# Altium schematic symbol library KickerSchlib.SchLib: 13 symbols
Pins are listed as number, name and electrical type; pins without a type are passive.

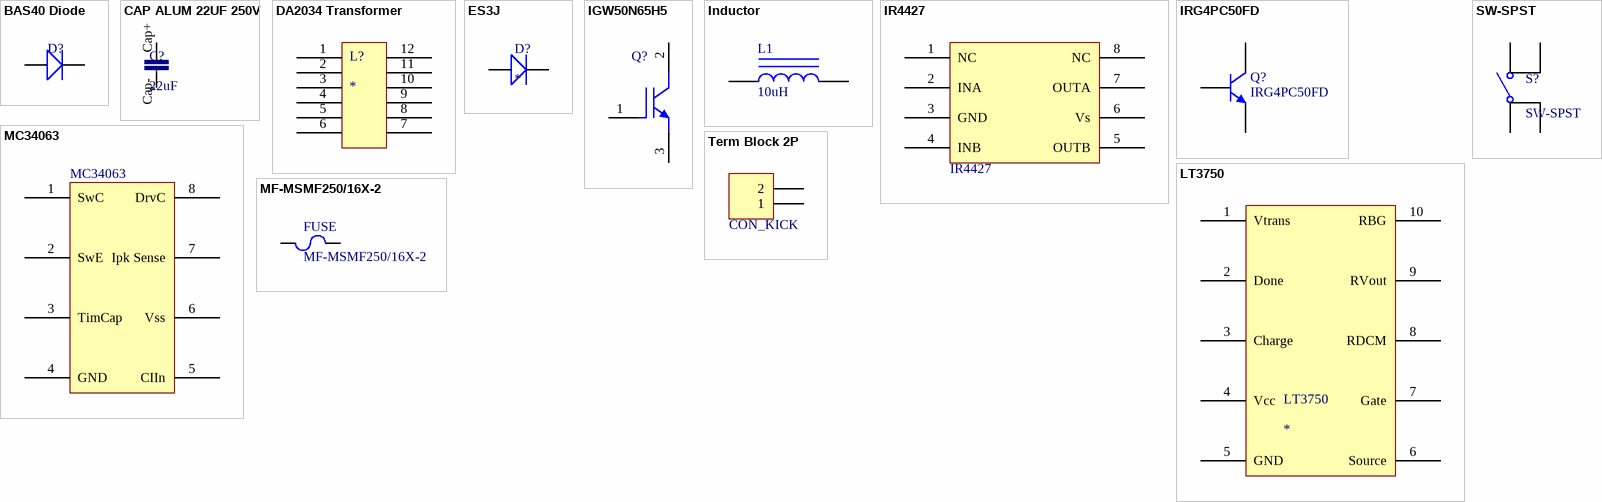
[diagram p0: symbols BAS40 Diode to Term Block 2P]

## BAS40 Diode
designator D?  (value not drawn)
footprint DIODE SOD-523
pins: 1 D+, 2 D-

## CAP ALUM 22UF 250V
designator C?, comment 22uF
footprint CAP ALUM 22UF 250V (22uF)
pins: Cap+, Cap-

## DA2034 Transformer
designator L?
footprint DA2034 Transformer
pins: 1, 2, 3, 4, 5, 6, 7, 8, 9, 10, 11, 12
1 alternate drawing of the same symbol

## ES3J
designator D?
footprint Diode
pins: D1+, D1-

## IGW50N65H5
designator Q?
650 V IGBT High Speed Switching Series Fifth Generation, 80 A IC, PG-TO247-3-44, Tube, Green; Manufacturer: Infineon; PartNumber: IGW50N65H5; Green: TRUE; Group: IGBT without Anti-Parallel Diode; IC(max)@ 100degrees: 56 A; IC(max)@ 25degrees: 80 A; ICpuls(max): 150 A; Ptot(max): 305 W; Switching Frequency: TRENCHSTOP5 10-120 kHz; VCE(max): 650 V; VCE(sat)(typ): 1.65 V; DatasheetVersion: Rev. 1.1; PackageVersion: Rev. 03; PackageReference: PG-TO247-3-44; PackageDescription: 3-Pin Plastic (Green) Transistor Single Outline Package, 15.94 x 20.95 mm Body, 5.44 mm Pitch; Supplier 1: Mouser; Supplier Part Number 1: N/A; Halogen-free: available; Packing: Tube; Mounting Technology: Through Hole; ComponentLink1Description: Manufacturer URL; ComponentLink1URL: http://www.infineon.com/; ComponentLink2Description: Datasheet; ComponentLink2URL: http://www.infineon.com/dgdl/DS_IGW50N65H5_1_1.pdf?folderId=db3a3043156fd5730115f56849b61941&fileId=db3a30433af5291e013af900f52c5c25&location=en.Products.IGBTs.IGBT_with_Anti-Parallel_Diode.TRENCHSTOP_5.DATASHEET.DS_IGW50N65H5_1_1.pdf; ComponentLink3Description: Package Specification; ComponentLink3URL: http://www.infineon.com/cms/packages/Leaded_and_through-hole/P-PG-TO247/P-PG-TO247-3-44.html?__locale=en
footprint INF-PG-TO247-3-44 (FM, 3-Leads, Body 5.02x15.94mm, Pitch 5.44mm)
pins: 1 G, 2 C, 3 E

## Inductor
designator L1, comment 10uH
Fixed Inductors 100uH 0.86A SMT
footprint INDUCTOR
pins: 1, 2

## IR4427
designator IR4427, comment GATE DRIVER  (value not drawn)
IC DRIVER DUAL LOW SIDE 8-SOIC
footprint SOIC-8 (IR4427 Footprint)
pins: 1 NC, 2 INA, 3 GND, 4 INB, 5 OUTB, 6 Vs, 7 OUTA, 8 NC

## IRG4PC50FD
designator Q?
IGBT Transistors 600V FAST 1-8 KHZ COPACK IGBT; Published: 28-dez-2017; DatasheetVersion: 2000; Publisher: RoboIME; ComponentLink2URL: http://www.irf.com/product-info/datasheets/data/irg4pc50fd.pdf
footprint IRG4PC50FD (IGBT Transistors 600V FAST 1-8 KHZ COPACK IGBT)
pins: 1 C, 2 G, 3 E

## LT3750
designator LT3750
footprint LT3750
pins: 1 Vtrans, 2 Done, 3 Charge, 4 Vcc, 5 GND, 6 Source, 7 Gate, 8 RDCM, 9 RVout, 10 RBG

## MC34063
designator MC34063, comment Switching Voltage Regulator  (value not drawn)
footprint DIP-8 (MC34063 Footprint)
pins: 1 SwC, 2 SwE, 3 TimCap, 4 GND, 5 CIIn, 6 Vss, 7 Ipk Sense, 8 DrvC

## MF-MSMF250/16X-2
designator FUSE
PTC RESETTABLE
footprint MF-MSMF250/16X-PCB (Chip PTC RESETTABLE)
pins: 1, 2

## SW-SPST
designator S?
Single-Pole, Single-Throw Switch; Published: 24-Mar-1999; LatestRevisionDate: 17-Jul-2002; LatestRevisionNote: Re-released for DXP Platform.; PackageReference: SPST-2; Publisher: Altium Limited; PackageDescription: Switch; 2 Leads
footprint TACTILE SWITCH
pins: 1, 2, 3, 4

## Term Block 2P
designator CON_KICK, comment OSTTA024163  (value not drawn)
2 Position Wire to Board Terminal Block Horizontal with Board 0.200" (5.08mm) Through Hole
footprint Term Block 2P
pins: 1, 2